# EAGLE library part SMD-30 (library cdp)
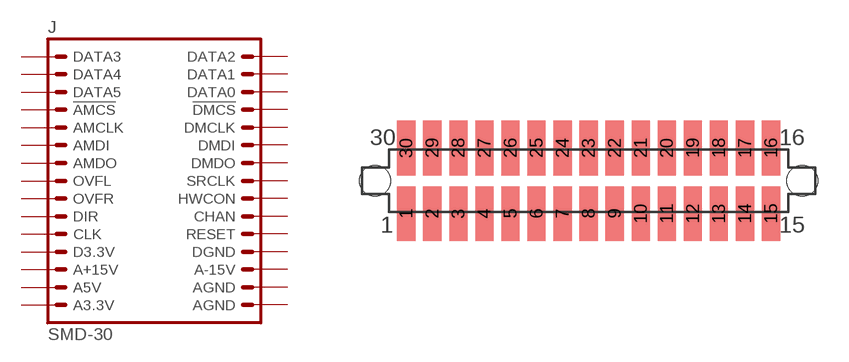
[diagram p8: symbol with the pads of FCI-SMD-30; footprint FCI-SMD-30]

Designator prefix J

## SMD-30  [FCI-SMD-30]
1  AGND  pwr
2  AGND  pwr
3  A-15V  pwr
4  DGND  pwr
5  RESET  in
6  CHAN  out
7  HWCON  in
8  SRCLK  in
9  DMDO  out
10  DMDI  in
11  DMCLK  in
12  !DMCS  in
13  DATA0
14  DATA1
15  DATA2
16  DATA3
17  DATA4
18  DATA5
19  !AMCS  in
20  AMCLK  in
21  AMDI  in
22  AMDO  out
23  OVFL  out
24  OVFR  out
25  DIR  out
26  CLK  in
27  D3.3V  pwr
28  A+15V  pwr
29  A5V  pwr
30  A3.3V  pwr

## Footprint FCI-SMD-30 (pad centres in mm)
smd 0.889 x 2.667: 1 -8.89,-1.6; 2 -7.62,-1.6; 3 -6.35,-1.6; 4 -5.08,-1.6; 5 -3.81,-1.6; 6 -2.54,-1.6; 7 -1.27,-1.6; 8 0,-1.6; 9 1.27,-1.6; 10 2.54,-1.6; 11 3.81,-1.6; 12 5.08,-1.6; 13 6.35,-1.6; 14 7.62,-1.6; 15 8.89,-1.6; 16 8.89,1.6; 17 7.62,1.6; 18 6.35,1.6; 19 5.08,1.6; 20 3.81,1.6; 21 2.54,1.6; 22 1.27,1.6; 23 0,1.6; 24 -1.27,1.6; 25 -2.54,1.6; 26 -3.81,1.6; 27 -5.08,1.6; 28 -6.35,1.6; 29 -7.62,1.6; 30 -8.89,1.6
hole 1.5 at -10.414,0
hole 1.5 at 10.414,0